# EAGLE library part SS22SDP2 (library SamacSys_Parts)
NKK SWITCHES - SS22SDP2 - SLIDE SWITCH, DPDT, ON-NONE-ON Source: Datasheet <https://componentsearchengine.com/Datasheets/1/SS22SDP2.pdf>
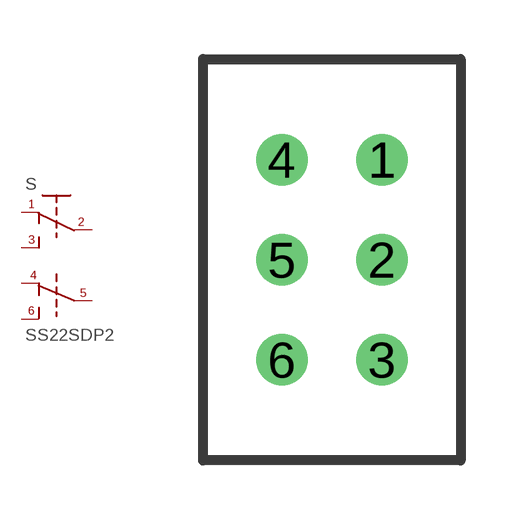
[diagram p0: symbol with the pads of SS22SDP2(DPDT); footprint SS22SDP2(DPDT)]

Designator prefix S

## SS22SDP2 (DESCRIPTION: NKK SWITCHES - SS22SDP2 - SLIDE SWITCH, DPDT, ON-NONE-ON; HEIGHT: mm; MANUFACTURER_NAME: NKK Switches; MANUFACTURER_PART_NUMBER: SS22SDP2; MOUSER_PART_NUMBER: 633-SS22SDP2)  [SS22SDP2(DPDT)]
1  1  pas
2  2  pas
3  3  pas
4  4  pas
5  5  pas
6  6  pas

## Footprint SS22SDP2(DPDT) (pad centres in mm)
SS22SDP2(DPDT)
drill 0.8 pad 1.3: 1 1.27,2.54; 2 1.27,0; 3 1.27,-2.54; 4 -1.27,2.54; 5 -1.27,0; 6 -1.27,-2.54